# EAGLE library part CON_HE10_10P (library IUTV3)
CONNECTOR
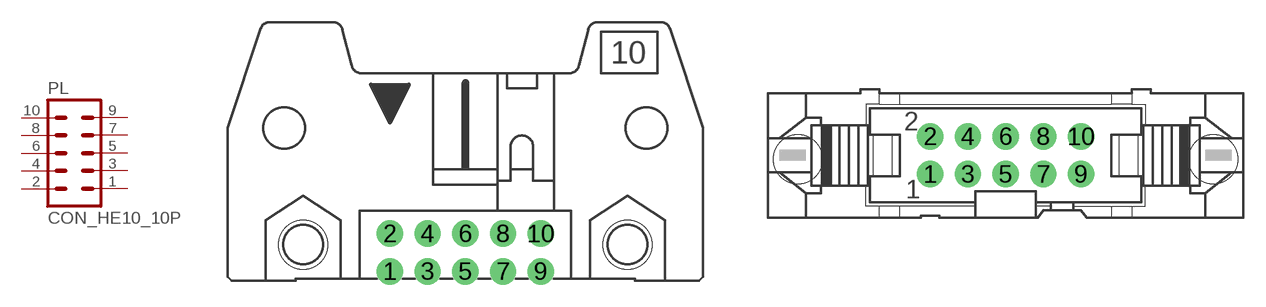
[diagram p42: symbol with the pads of 10H; footprints 10H, 10V]

Designator prefix PL

## CON_HE10_10P (MF: AMPHENOL; MOT_CLES_FARNELL: Connecteur fil-à-carte,Embase 10p horizontal a verrouillage 2.54 mm; MOT_CLES_RADIOSPARE: Embases de circuit imprimé, horizontal a verrouillage 10p 2.54 mm; MPN: T816110A1S102CEU; OC_FARNELL: 2217528)  [10H]
1  1  pas
2  2  pas
3  3  pas
4  4  pas
5  5  pas
6  6  pas
7  7  pas
8  8  pas
9  9  pas
10  10  pas

## CON_HE10_10PV (MF: AMPHENOL; MOT_CLES: Connecteur fil-à-carte, Embase 10p a verrouillage Traversant 2.54 mm; MOT_CLES_RADIOSPARE: Embases de circuit imprimé, a verrouillage 10p 2.54 mm; MPN: T816110A1R101CEU; OC_FARNELL: 2215276)  [10V]
Pads as for 10H

## CON_HE10_10PT (MF: HARWIN; MOT_CLES_FARNELL: Connecteur fil-à-carte,Embase 10p 2.54 mm; MOT_CLES_RADIOSPARE: Embases de circuit imprimé, Vertical Traversant 10p 2.54 mm; MPN: M20-9980546; OC_FARNELL: 1022236; OC_RADIOSPARE: 745-7059)  [MA05-2]
Pads as for 10H

## CON_HE10_10PR (MF: AMPHENOL; MOT_CLES_FARNELL: Connecteur fil-à-carte, Vertical Traversant Embase 10p 2.54 mm; MOT_CLES_RADIOSPARE: Embases de circuit imprimé Vertical Traversant 10p 2.54 mm; MPN: T821110A1S100CEU; OC_FARNELL: 2215304)  [ML10]
Pads as for 10H

## CON_HE10_10PE (MF: AMPHENOL; MOT_CLES_FARNELL: Connecteur fil-à-carte, Horizontal Traversant Embase 10p 2.54 mm; MOT_CLES_RADIOSPARE: Embases de circuit imprimé Vertical Traversant 10p 2.54 mm; MPN: T821110A1R100CEU; OC_FARNELL: 2215290)  [ML10L]
Pads as for 10H

## Footprint 10H (pad centres in mm)
CONNECTOR
drill 1 pad 1.778: 1 -5.08,-1.27; 2 -5.08,1.27; 3 -2.54,-1.27; 4 -2.54,1.27; 5 0,-1.27; 6 0,1.27; 7 2.54,-1.27; 8 2.54,1.27; 9 5.08,-1.27; 10 5.08,1.27
hole 3.302 at -10.922,0.533
hole 3.302 at 10.922,0.533

## Footprint 10V (pad centres in mm)
CONNECTOR
drill 1 pad 1.778: 1 -5.08,-1.27; 2 -5.08,1.27; 3 -2.54,-1.27; 4 -2.54,1.27; 5 0,-1.27; 6 0,1.27; 7 2.54,-1.27; 8 2.54,1.27; 9 5.08,-1.27; 10 5.08,1.27
hole 3.302 at 13.97,-0.254
hole 3.302 at -13.97,-0.254

## Footprint MA05-2 (pad centres in mm)
PIN HEADER
drill 1.016: 1 -5.08,-1.27; 3 -2.54,-1.27; 5 0,-1.27
drill 1.016 pad 1.778: 2 -5.08,1.27; 4 -2.54,1.27; 6 0,1.27; 7 2.54,-1.27; 8 2.54,1.27; 9 5.08,-1.27; 10 5.08,1.27

## Footprint ML10 (pad centres in mm)
HARTING
drill 1 pad 1.778: 1 -5.08,-1.27; 2 -5.08,1.27; 3 -2.54,-1.27; 4 -2.54,1.27; 5 0,-1.27; 6 0,1.27; 7 2.54,-1.27; 8 2.54,1.27; 9 5.08,-1.27; 10 5.08,1.27

## Footprint ML10L (pad centres in mm)
HARTING
drill 1 pad 1.778: 1 -5.08,-1.27; 2 -5.08,1.27; 3 -2.54,-1.27; 4 -2.54,1.27; 5 0,-1.27; 6 0,1.27; 7 2.54,-1.27; 8 2.54,1.27; 9 5.08,-1.27; 10 5.08,1.27